# Altium integrated library MyLib.IntLib: 3 symbols
Pins are listed as number, name and electrical type; pins without a type are passive.

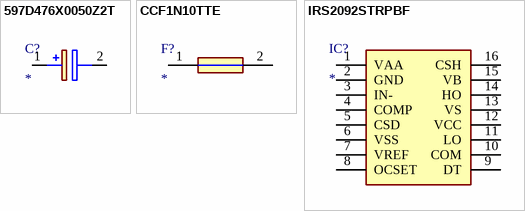
[diagram p0: symbols 597D476X0050Z2T to IRS2092STRPBF]

## 597D476X0050Z2T
designator C?
Capacitor Polarised; Manufacturer_Name: Vishay; Manufacturer_Part_Number: 597D476X0050Z2T; Description: Solid Tantalum Chip Capacitors TANTAMOUNT(TM); Datasheet Link: http://www.vishay.com/doc?40047; Height: 6.4mm; Mouser Part Number: 71-597D476X0050Z2T; Mouser Price/Stock: https://www.mouser.co.uk/ProductDetail/Vishay-Sprague/597D476X0050Z2T?qs=cyBetVxIfqkOZXvQZwfF4Q%3D%3D; Arrow Part Number: 597D476X0050Z2T; Arrow Price/Stock: https://www.arrow.com/en/products/597d476x0050z2t/vishay?region=nac
footprint CAPPC5760X640N
pins: 1 +, 2 -

## CCF1N10TTE
designator F?
Fuse; Manufacturer_Name: KOA Speer; Manufacturer_Part_Number: CCF1N10TTE; Datasheet Link: https://componentsearchengine.com/Datasheets/1/CCF1N10TTE.pdf; Height: 2.7mm; Mouser Part Number: 660-CCF1N10TTE; Mouser Price/Stock: https://www.mouser.co.uk/ProductDetail/KOA-Speer/CCF1N10TTE?qs=rZB7yXOqaotLjZpPUC%2Fp3g%3D%3D; Arrow Part Number: CCF1N10TTE; Arrow Price/Stock: https://www.arrow.com/en/products/ccf1n10tte/koa-speer-electronics?region=nac
footprint FUSC6025X270N
pins: 1, 2

## IRS2092STRPBF
designator IC?
Integrated Circuit; Manufacturer_Name: Infineon; Manufacturer_Part_Number: IRS2092STRPBF; Datasheet Link: https://www.infineon.com/dgdl/irs2092.pdf?fileId=5546d462533600a401535675f1be2790; Height: 1.75mm; Mouser Part Number: 942-IRS2092STRPBF; Mouser Price/Stock: https://www.mouser.co.uk/ProductDetail/Infineon-Technologies/IRS2092STRPBF?qs=9%252BKlkBgLFf05m7YE8gkORQ%3D%3D; Arrow Part Number: IRS2092STRPBF; Arrow Price/Stock: https://www.arrow.com/en/products/irs2092strpbf/infineon-technologies-ag?region=nac
footprint SOIC127P600X175-16N
pins: 1 VAA, 2 GND, 3 IN-, 4 COMP, 5 CSD, 6 VSS, 7 VREF, 8 OCSET, 9 DT, 10 COM, 11 LO, 12 VCC, 13 VS, 14 HO, 15 VB, 16 CSH